# EAGLE library part MCP621 (library mcp621)
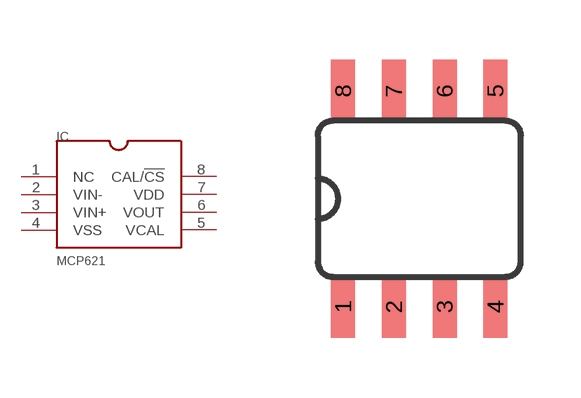
[diagram p0: symbol with the pads of SO08; footprint SO08]

Designator prefix IC

## MCP621  [SO08]
1  NC  nc
2  VIN-  in
3  VIN+  in
4  VSS  pwr
5  VCAL  pas
6  VOUT  out
7  VDD  pwr
8  CAL/!CS

## Footprint SO08 (pad centres in mm)
Small Outline package 150 mil
smd 0.6 x 1.55: 1 -1.905,-2.7; 2 -0.635,-2.7; 3 0.635,-2.7; 4 1.905,-2.7; 5 1.905,2.7; 6 0.635,2.7; 7 -0.635,2.7; 8 -1.905,2.7